# Altium footprint library E22-400T22S.PcbLib: 1 footprints
Each footprint in its own frame and in the unit in brackets; x right, y up, seen from the top. Pads: shape width x height; smd on the part's side, far side on the other; paste and mask are expansions set on the pad; w line width, h text height; cw(c..) or ccw(c..) is an arc to the next point about the centre after c.
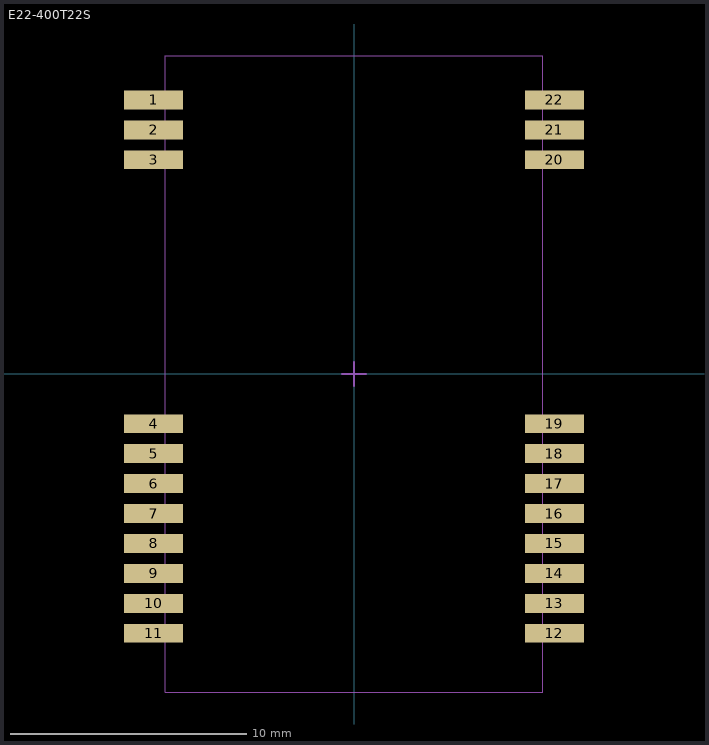
[diagram p0: the footprint, top view; thin cyan lines are the x and y axes]

## E22-400T22S [mm] "Chip Array, Concave, 22-Leads, Pitch 1.27mm,  Body 26.00x16.00mm,  IPC Low Density"
height 3.15
pads (22):
  rect 2.5x0.8 smd: 1(-8.5,11.63) 2(-8.5,10.36) 3(-8.5,9.09) 4(-8.5,-2.11) 5(-8.5,-3.38) 6(-8.5,-4.65) 7(-8.5,-5.92) 8(-8.5,-7.19) 9(-8.5,-8.46) 10(-8.5,-9.73) 11(-8.5,-11) 12(8.5,-11) 13(8.5,-9.73) 14(8.5,-8.46) 15(8.5,-7.19) 16(8.5,-5.92) 17(8.5,-4.65) 18(8.5,-3.38) 19(8.5,-2.11) 20(8.5,9.09) 21(8.5,10.36) 22(8.5,11.63)
Mechanical 15:
  lines w0.05: -8,-13.5 -8,13.5 8,13.5 8,-13.5 -8,-13.5
  lines w0.1: -0.5,0 0.5,0 ; 0,-0.5 0,0.5